# Altium integrated library ATMEGA328PB-AUR.IntLib: 1 symbol
Pins are listed as number, name and electrical type; pins without a type are passive.

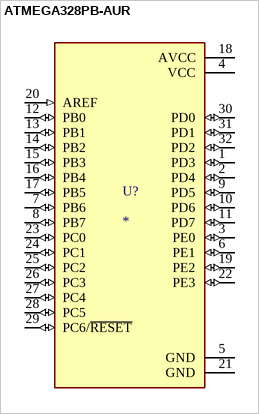
[diagram p0: symbol ATMEGA328PB-AUR]

## ATMEGA328PB-AUR
designator U?
MCU, 8BIT, 20MHZ, TQFP-32; Product Range:AVR Family ATmega328 Series Microcontrollers; CPU Speed:20MHz; Program Memory Size:32KB; RAM Memory Size:2KB; No. of Pins:32Pins; MCU Case Style:TQFP; No. of I/O's:27I/O's; Embedded Interface Type:I2C, SPI, USART;; MF: Microchip Technology; MP: ATMEGA328PBAUR; SnapEDA_Link: https://www.snapeda.com/parts/ATMEGA328PBAUR/Microchip+Technology/view-part/?ref=snap; Package: None; Value: *; Check_prices: https://www.snapeda.com/parts/ATMEGA328PBAUR/Microchip+Technology/view-part/?ref=eda
footprint QFP80P900X900X120-32N
pins: 1 PD3 (io), 2 PD4 (io), 3 PE0 (io), 4 VCC (power), 5 GND (power), 6 PE1 (io), 7 PB6 (io), 8 PB7 (io), 9 PD5 (io), 10 PD6 (io), 11 PD7 (io), 12 PB0 (io), 13 PB1 (io), 14 PB2 (io), 15 PB3 (io), 16 PB4 (io), 17 PB5 (io), 18 AVCC (power), 19 PE2 (io), 20 AREF (in), 21 GND (power), 22 PE3 (io), 23 PC0 (io), 24 PC1 (io), 25 PC2 (io), 26 PC3 (io), 27 PC4 (io), 28 PC5 (io), 29 PC6/~{RESET} (io), 30 PD0 (io), 31 PD1 (io), 32 PD2 (io)